# Altium schematic symbol library NG_Analog.SchLib: 16 symbols
Pins are listed as number, name and electrical type; pins without a type are passive.

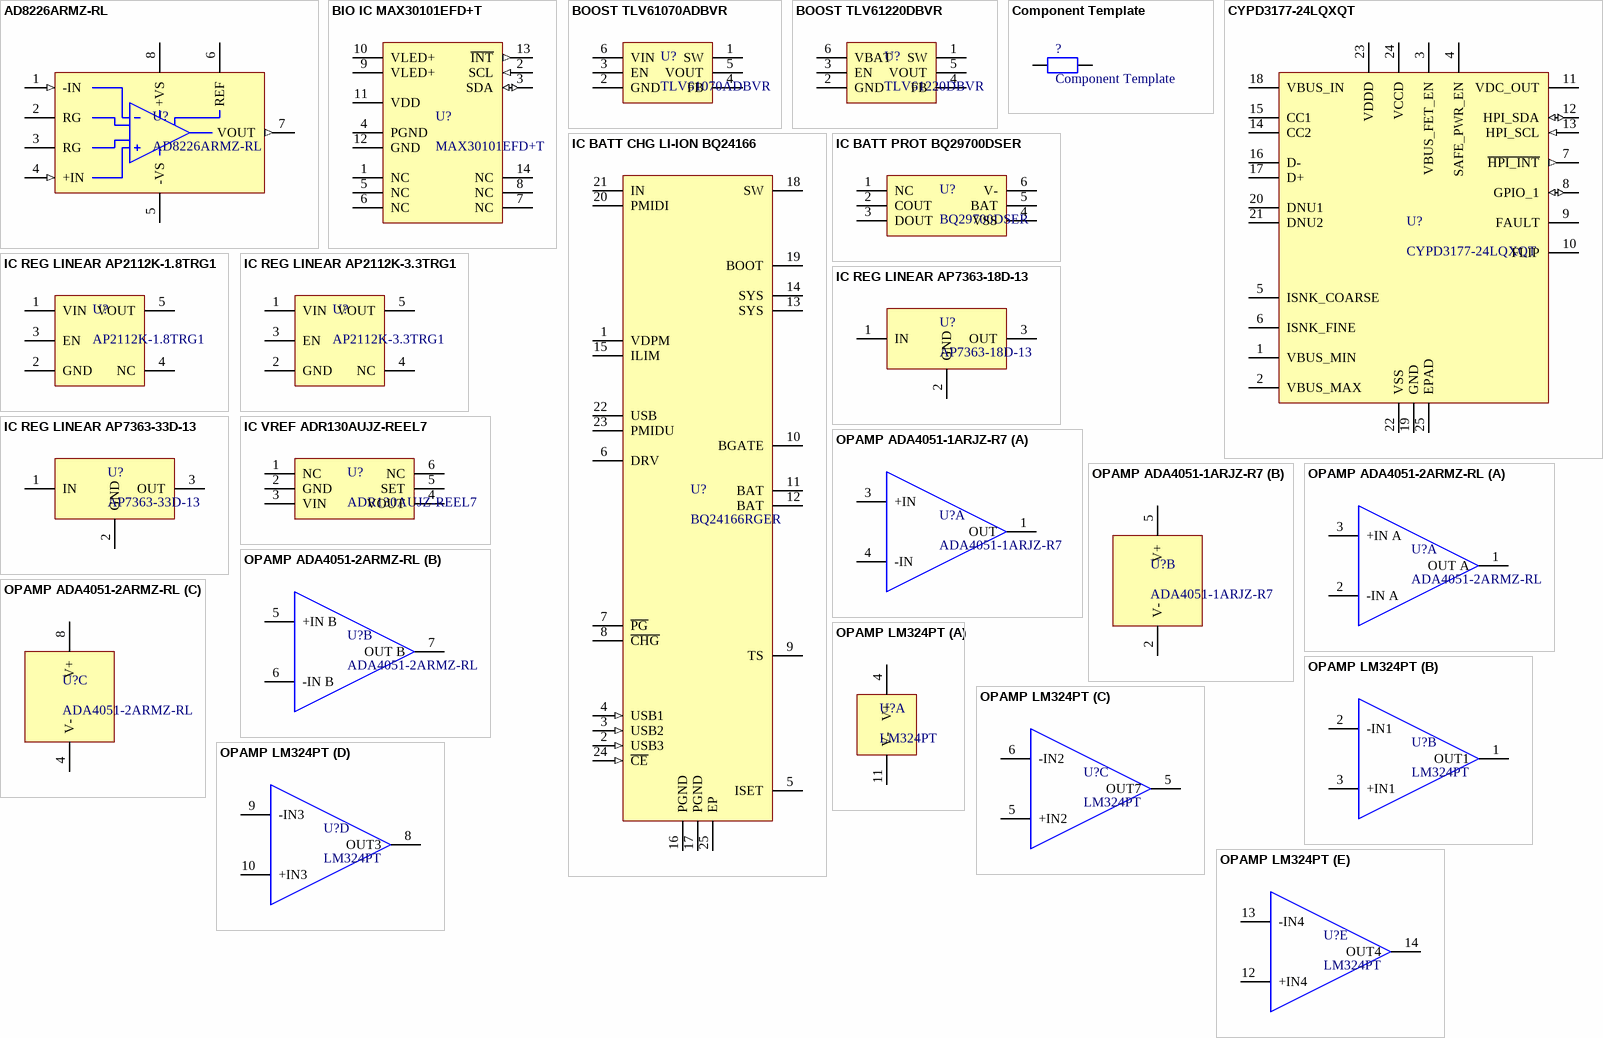
[diagram p0: symbols AD8226ARMZ-RL to OPAMP LM324PT]

## AD8226ARMZ-RL
designator U?
Instrumentation Amplifier, 1 CH; MFR: Analog Devices; SPN: 584-AD8226ARMZ-R; Checked: No; Footprint: MSOP-8; Supplier: Mouser; MFRN: AD8226ARMZ-RL; Link: https://hr.mouser.com/ProductDetail/Analog-Devices/AD8226ARMZ-RL?qs=sGAEpiMZZMtuedWc5vOqGOg2P2zBW3ua3%252BX8tTUXoKc%3D
footprint SOP65P530X110-8 (Small Outline Package, 8 pins)
pins: 1 -IN (in), 2 RG, 3 RG, 4 +IN (in), 5 -VS (power), 6 REF (power), 7 VOUT (out), 8 +VS (power)

## BIO IC MAX30101EFD+T
designator U?, comment MAX30101EFD+T
Pulse Oximeter and Heart-Rate Sensor for Wearable Health; MFR: Analog Devices Inc./Maxim Integrated; SPN: 700-MAX30101EFD+T; Checked: No; Footprint: ?; Supplier: Mouser; MFRN: MAX30101EFD+T; Link: https://hr.mouser.com/ProductDetail/Analog-Devices-Maxim-Integrated/MAX30101EFD%2bT?qs=sITqEBh490kEm6CNcTH1tQ%3D%3D
footprint QFN80P330X560X155-14 (Generic description)
pins: 1 NC, 2 SCL (in), 3 SDA (io), 4 PGND (power), 5 NC, 6 NC, 7 NC, 8 NC, 9 VLED+ (power), 10 VLED+ (power), 11 VDD (power), 12 GND (power), 13 ~{INT} (out), 14 NC

## BOOST TLV61070ADBVR
designator U?, comment TLV61070ADBVR
Boost converter, 0.5V to 5.5V Input, 2.5A; MFR: Texas Instruments; SPN: 595-TLV61070ADBVR; Checked: No; Footprint: SOT-23; Supplier: Mouser; MFRN: TLV61070ADBVR; Link: https://hr.mouser.com/ProductDetail/Texas-Instruments/TLV61070ADBVR?qs=sGAEpiMZZMsMIqGZiACxIRoU9mnTGarMaFuk36083UeP6hDd%252BJpztw%3D%3D
footprint SOT95P280X115-6 (Generic description)
pins: 1 SW (power), 2 GND (power), 3 EN, 4 FB, 5 VOUT (power), 6 VIN (power)

## BOOST TLV61220DBVR
designator U?, comment TLV61220DBVR
Boost converter, 0.7V to 5.5V Input; MFR: Texas Instruments; SPN: 595-TLV61220DBVR; Checked: No; Footprint: SOT-23; Supplier: Mouser; MFRN: TLV61220DBVR; Link: https://hr.mouser.com/ProductDetail/Texas-Instruments/TLV61220DBVR?qs=l6ZoeTYLMwOr7SC1DbpfZQ%3D%3D
footprint SOT95P280X115-6 (Generic description)
pins: 1 SW (power), 2 GND (power), 3 EN, 4 FB, 5 VOUT (power), 6 VBAT (power)

## Component Template
designator ?
Generic Description; Checked: No; Footprint: ?; MFR: ?; Supplier: Mouser; SPN: ?; MFRN: ?
pins: 1, 2

## CYPD3177-24LQXQT
designator U?
Generic Description; MFR: Infineon Technologies; SPN: 727-CYPD3177-24LQXQT; Checked: Yes; Footprint: 24-TQFN-EP; Supplier: Mouser; MFRN: CYPD3177-24LQXQT; Link: https://hr.mouser.com/ProductDetail/Infineon-Technologies/CYPD3177-24LQXQT?qs=PzGy0jfpSMvUfBLYWBYBLA%3D%3D
footprint QFN50P410X410X100-24EP (Generic description)
pins: 1 VBUS_MIN, 2 VBUS_MAX, 3 VBUS_FET_EN, 4 SAFE_PWR_EN, 5 ISNK_COARSE, 6 ISNK_FINE, 7 ~{HPI_INT} (out), 8 GPIO_1 (io), 9 FAULT, 10 FLIP, 11 VDC_OUT, 12 HPI_SDA (io), 13 HPI_SCL (in), 14 CC2, 15 CC1, 16 D-, 17 D+, 18 VBUS_IN (power), 19 GND (power), 20 DNU1, 21 DNU2, 22 VSS (power), 23 VDDD (power), 24 VCCD (power), 25 EPAD (power)

## IC BATT CHG LI-ION BQ24166
designator U?, comment BQ24166RGER
IC Battery Charger, Li-Ion, 1 Cell, 3.7V, 2.5A; MFR: Texas Instruments; SPN: 595-BQ24166RGER; Checked: Yes; Footprint: VQFN-24; Supplier: Mouser; MFRN: BQ24166RGER; Link: https://hr.mouser.com/ProductDetail/Texas-Instruments/BQ24166RGER?qs=63LrFSLv3u%252BNG%2F5wEYuQNQ%3D%3D
footprint QFN50P410X410X100-24EP (Generic description)
pins: 1 VDPM (power), 2 USB3 (in), 3 USB2 (in), 4 USB1 (in), 5 ISET, 6 DRV, 7 ~{PG} (oc), 8 ~{CHG} (oc), 9 TS, 10 BGATE (hiz), 11 BAT (power), 12 BAT (power), 13 SYS, 14 SYS, 15 ILIM (power), 16 PGND, 17 PGND, 18 SW (power), 19 BOOT, 20 PMIDI (power), 21 IN (power), 22 USB (power), 23 PMIDU (power), 24 ~{CE} (in), 25 EP

## IC BATT PROT BQ29700DSER
designator U?, comment BQ29700DSER
Battery Protection IC Li-Ion 1Cell; MFR: Texas Instruments; SPN: 595-BQ29700DSER; Checked: Yes; Footprint: WSON-6; Supplier: Mouser; MFRN: BQ29700DSER; Link: https://hr.mouser.com/ProductDetail/Texas-Instruments/BQ29700DSER?qs=%2Fd%252BFzHvH4c3zNh7Hkm%2Fvbw%3D%3D
footprint WSON50P150X150X80-6 (Generic description)
pins: 1 NC, 2 COUT, 3 DOUT, 4 VSS (power), 5 BAT (power), 6 V- (power)

## IC REG LINEAR AP2112K-1.8TRG1
designator U?, comment AP2112K-1.8TRG1
Linear LDO Voltage Regulator, 1.8V, 600mA; MFR: Diodes Incorporated; SPN: 621-AP2112K-1.8TRG1; Checked: Yes; Footprint: SOT-25-5; Supplier: Mouser; MFRN: AP2112K-1.8TRG1; Link: https://hr.mouser.com/ProductDetail/Diodes-Incorporated/AP2112K-1.8TRG1?qs=x6A8l6qLYDBx1xhw8AX2cw%3D%3D
footprint SOT95P280X115-5 (Generic description)
pins: 1 VIN (power), 2 GND (power), 3 EN (power), 4 NC, 5 VOUT

## IC REG LINEAR AP2112K-3.3TRG1
designator U?, comment AP2112K-3.3TRG1
Linear LDO Voltage Regulator, 3.3V, 600mA; MFR: Diodes Incorporated; SPN: 621-AP2112K-3.3TRG1; Checked: Yes; Footprint: SOT-25-5; Supplier: Mouser; MFRN: AP2112K-3.3TRG1; Link: https://hr.mouser.com/ProductDetail/Diodes-Incorporated/AP2112K-3.3TRG1?qs=sGAEpiMZZMug9GoBKXZ7571prORexT17l%252BdJyLTK7uthQsHsGnYZAw%3D%3D
footprint SOT95P280X115-5 (Generic description)
pins: 1 VIN (power), 2 GND (power), 3 EN (power), 4 NC, 5 VOUT

## IC REG LINEAR AP7363-18D-13
designator U?, comment AP7363-18D-13
Linear LDO Voltage Regulator, 1.8V, 1.5A; MFR: Diodes Incorporated; SPN: 621-AP7363-18D-13; Checked: Yes; Footprint: TO-252-3; Supplier: Mouser; MFRN: AP7363-18D-13; Link: https://hr.mouser.com/ProductDetail/Diodes-Incorporated/AP7363-18D-13?qs=wo71MgyKIyHspwNBCVf1qw%3D%3D
footprint TO457X991X229-3 (Generic description)
pins: 1 IN (power), 2 GND (power), 3 OUT (power)

## IC REG LINEAR AP7363-33D-13
designator U?, comment AP7363-33D-13
Linear LDO Voltage Regulator, 3.3V, 1.5A; MFR: Diodes Incorporated; SPN: 621-AP7363-33D-13; Checked: Yes; Footprint: TO-252-3; Supplier: Mouser; MFRN: AP7363-33D-13; Link: https://hr.mouser.com/ProductDetail/Diodes-Incorporated/AP7363-33D-13?qs=wo71MgyKIyHiOg1BWxA5bA%3D%3D
footprint TO457X991X229-3 (Generic description)
pins: 1 IN (power), 2 GND (power), 3 OUT (power)

## IC VREF ADR130AUJZ-REEL7
designator U?, comment ADR130AUJZ-REEL7
Voltage reference, 0.5V or 1V; MFR: Analog Devices; SPN: 584-ADR130AUJZ-R7; Checked: No; Footprint: TSOT-6; Supplier: Mouser; MFRN: ADR130AUJZ-REEL7; Link: https://hr.mouser.com/ProductDetail/Analog-Devices/ADR130AUJZ-REEL7?qs=WIvQP4zGangoCvzzhVb1kQ%3D%3D
footprint SOT95P280X115-6 (Generic description)
pins: 1 NC, 2 GND (power), 3 VIN (power), 4 VOUT (power), 5 SET, 6 NC

## OPAMP ADA4051-1ARJZ-R7
designator U?, comment ADA4051-1ARJZ-R7
Operational Amplifier, 1CH; MFR: Analog Devices; SPN: 584-ADA4051-1ARJZ-R7; Checked: No; Footprint: SOT-23-5; Supplier: Mouser; MFRN: ADA4051-1ARJZ-R7; Link: https://hr.mouser.com/ProductDetail/Analog-Devices/ADA4051-1ARJZ-R7?qs=BpaRKvA4VqH1FQzKL%2FMPUA%3D%3D
footprint SOT95P280X115-5 (Generic description)
part A pins: 1 OUT, 3 +IN, 4 -IN
part B pins: 2 V-, 5 V+

## OPAMP ADA4051-2ARMZ-RL
designator U?, comment ADA4051-2ARMZ-RL
Operational Amplifier, 2CH; MFR: Analog Devices; SPN: 584-ADA4505-2ARMZ-R; Checked: No; Footprint: MSOP-8; Supplier: Mouser; MFRN: ADA4051-2ARMZ-RL; Link: https://hr.mouser.com/ProductDetail/Analog-Devices/ADA4505-2ARMZ-RL?qs=BpaRKvA4VqFVyzCH36g0VA%3D%3D
footprint SOP65P530X110-8 (Small Outline Package, 8 pins)
part A pins: 1 OUT A, 2 -IN A, 3 +IN A
part B pins: 5 +IN B, 6 -IN B, 7 OUT B
part C pins: 4 V-, 8 V+

## OPAMP LM324PT
designator U?, comment LM324PT
Operational Amplifier, 4CH; MFR: STMicroelectronics; SPN: 511-LM324P; Checked: No; Footprint: TSSOP-14; Supplier: Mouser; MFRN: LM324PT; Link: https://hr.mouser.com/ProductDetail/STMicroelectronics/LM324PT?qs=CveI%2FUwZDBIHX0qzHo7hHg%3D%3D
footprint SOP65P530X110-8 (Small Outline Package, 8 pins)
part A pins: 4 V+, 11 V-
part B pins: 1 OUT1, 2 -IN1, 3 +IN1
part C pins: 5 +IN2, 5 OUT7, 6 -IN2
part D pins: 8 OUT3, 9 -IN3, 10 +IN3
part E pins: 12 +IN4, 13 -IN4, 14 OUT4